# Altium integrated library MergenElektronik_Resistors_ChipResistors.IntLib: 16 symbols
Pins are listed as number, name and electrical type; pins without a type are passive.

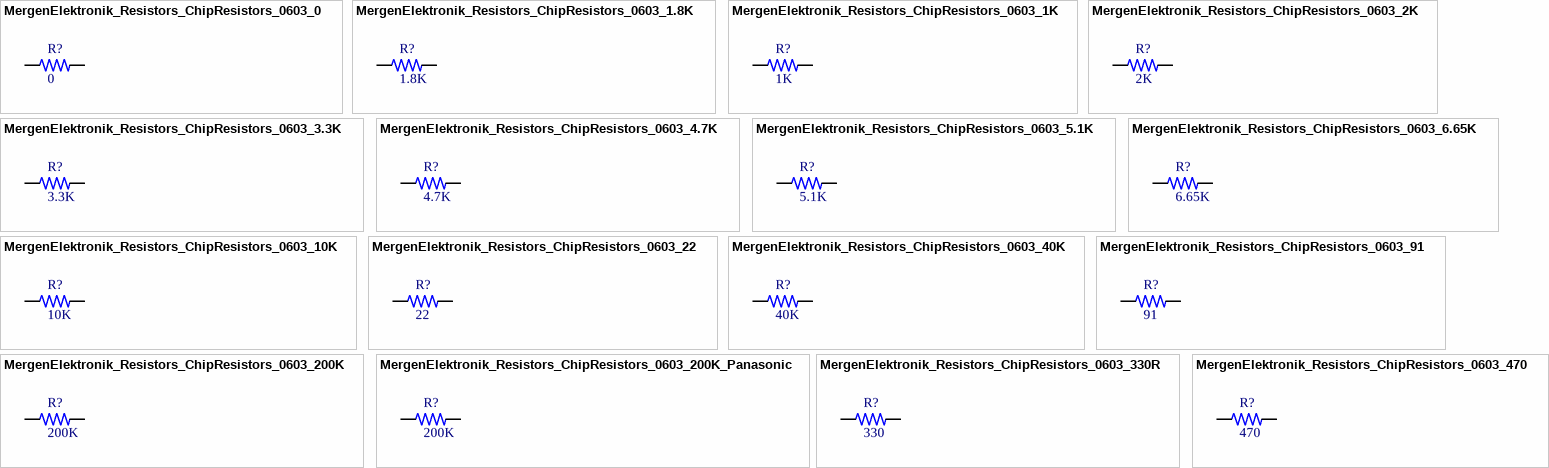
[diagram p0: symbols MergenElektronik_Resistors_ChipResistors_0603_0 to MergenElektronik_Resistors_ChipResistors_0603_470]

## MergenElektronik_Resistors_ChipResistors_0603_0
designator R?, comment 0
Mergen Elektronik - Resistors - Chip Resistors - 0603 - 0; Manufacturer: Stackpole Electronics Inc; Manufacturer Number: RMCF0603ZT0R00; Value: Chip Resistor - 0603 - 0; Package: 0603(1608); Temperature: -55°C up to +155°C - X8R; Model: Chip Resistor; Digi-Key Number: RMCF0603ZT0R00CT-ND; Mounting Type: Surface Mount; Power: -; Tolerance: -; Mouser Number: 708-RMCF0603ZT0R00; Özdisan Number: RMCF0603ZT0R00; Supplier 1: Digi-Key; Supplier 2: Mouser; Supplier Part Number 1: RMCF0603ZT0R00DKR-ND; Supplier Part Number 2: 708-RMCF0603ZT0R00
footprint MergenElektronik_Resistors_ChipResistors_0603_L (0603 Large)
footprint MergenElektronik_Resistors_ChipResistors_0603_L_NS (0603 Large - No Silkscreen)
footprint MergenElektronik_Resistors_ChipResistors_0603_M (0603 Medium)
footprint MergenElektronik_Resistors_ChipResistors_0603_M_NS (0603 Medium - No Silckscreen)
footprint MergenElektronik_Resistors_ChipResistors_0603_S (0603 Small)
footprint MergenElektronik_Resistors_ChipResistors_0603_S_NS (0603 Small - No Silkscreen)
pins: 1, 2

## MergenElektronik_Resistors_ChipResistors_0603_1.8K
designator R?, comment 1.8K
Mergen Elektronik - Resistors - Chip Resistors - 0603 - 1.8K; Manufacturer: Stackpole Electronics Inc; Manufacturer Number: RMCF0603JT1K80; Value: Chip Resistor - 0603 - 1.8K; Power: 1/10W; Tolerance: ±5%; Package: 0603(1608); Temperature: -55°C up to +155°C - X8R; Model: Chip Resistor; Digi-Key Number: RMCF0603JT1K80TR-ND; Mounting Type: Surface Mount; Mouser Number: 708-RMCF0603JT1K80; Supplier 1: Digikey; Supplier 2: Mouser; Supplier Part Number 1: RMCF0603JT1K80TR-ND; Supplier Part Number 2: 708-RMCF0603JT1K80
footprint MergenElektronik_Resistors_ChipResistors_0603_L (0603 Large)
footprint MergenElektronik_Resistors_ChipResistors_0603_L_NS (0603 Large - No Silkscreen)
footprint MergenElektronik_Resistors_ChipResistors_0603_M (0603 Medium)
footprint MergenElektronik_Resistors_ChipResistors_0603_M_NS (0603 Medium - No Silckscreen)
footprint MergenElektronik_Resistors_ChipResistors_0603_S (0603 Small)
footprint MergenElektronik_Resistors_ChipResistors_0603_S_NS (0603 Small - No Silkscreen)
pins: 1, 2

## MergenElektronik_Resistors_ChipResistors_0603_1K
designator R?, comment 1K
Mergen Elektronik - Resistors - Chip Resistors - 0603 - 1K; Manufacturer: Stackpole Electronics Inc; Manufacturer Number: RMCF0603JT1K00; Value: Chip Resistor - 0603 - 1K; Power: 1/10W; Tolerance: ±5%; Package: 0603(1608); Temperature: -55°C up to +155°C - X8R; Model: Chip Resistor; Digi-Key Number: RMCF0603JT1K00CT-ND; Mounting Type: Surface Mount; Mouser Number: 708-RMCF0603JT1K00; Supplier 1: Digikey; Supplier 2: Mouser; Supplier Part Number 1: RMCF0603JT1K00DKR-ND; Supplier Part Number 2: 708-RMCF0603JT1K00
footprint MergenElektronik_Resistors_ChipResistors_0603_L (0603 Large)
footprint MergenElektronik_Resistors_ChipResistors_0603_L_NS (0603 Large - No Silkscreen)
footprint MergenElektronik_Resistors_ChipResistors_0603_M (0603 Medium)
footprint MergenElektronik_Resistors_ChipResistors_0603_M_NS (0603 Medium - No Silckscreen)
footprint MergenElektronik_Resistors_ChipResistors_0603_S (0603 Small)
footprint MergenElektronik_Resistors_ChipResistors_0603_S_NS (0603 Small - No Silkscreen)
pins: 1, 2

## MergenElektronik_Resistors_ChipResistors_0603_2K
designator R?, comment 2K
Mergen Elektronik - Resistors - Chip Resistors - 0603 - 2K; Manufacturer: Panasonic Electronic Components; Manufacturer Number: ERJ-3EKF2001V; Value: Chip Resistor - 0603 - 2K; Power: 1/10W; Tolerance: ±1%; Package: 0603(1608); Temperature: -55°C up to +155°C - X8R; Model: Chip Resistor; Digi-Key Number: P2.00KHCT-ND; Mounting Type: Surface Mount; Mouser Number: 667-ERJ-3EKF2001V; Özdisan Number: ERJ-3EKF2001V; Farnell Number: 2059343; Supplier 1: Digikey; Supplier 2: Mouser; Supplier Part Number 1: P2.00KHDKR-ND; Supplier Part Number 2: 667-ERJ-3EKF2001V
footprint MergenElektronik_Resistors_ChipResistors_0603_L (0603 Large)
footprint MergenElektronik_Resistors_ChipResistors_0603_L_NS (0603 Large - No Silkscreen)
footprint MergenElektronik_Resistors_ChipResistors_0603_M (0603 Medium)
footprint MergenElektronik_Resistors_ChipResistors_0603_M_NS (0603 Medium - No Silckscreen)
footprint MergenElektronik_Resistors_ChipResistors_0603_S (0603 Small)
footprint MergenElektronik_Resistors_ChipResistors_0603_S_NS (0603 Small - No Silkscreen)
pins: 1, 2

## MergenElektronik_Resistors_ChipResistors_0603_3.3K
designator R?, comment 3.3K
Mergen Elektronik - Resistors - Chip Resistors - 0603 - 3.3K; Manufacturer: YAGEO; Manufacturer Number: RC0603FR-073K3L; Value: Chip Resistor - 0603 - 3.3K; Power: 1/10W; Tolerance: ±1%; Package: 0603(1608); Temperature: -55°C up to +155°C - X8R; Model: Chip Resistor; Digi-Key Number: 311-3.30KHRTR-ND; Mounting Type: Surface Mount; Mouser Number: 603-RC0603FR-073K3L; Farnell Number: 9238549; Özdisan Number: RC0603FR-073K3L; Supplier 1: Digikey; Supplier 2: Mouser; Supplier Part Number 1: 311-3.30KHRCT-ND; Supplier Part Number 2: RC0603FR-073K3L
footprint MergenElektronik_Resistors_ChipResistors_0603_L (0603 Large)
footprint MergenElektronik_Resistors_ChipResistors_0603_L_NS (0603 Large - No Silkscreen)
footprint MergenElektronik_Resistors_ChipResistors_0603_M (0603 Medium)
footprint MergenElektronik_Resistors_ChipResistors_0603_M_NS (0603 Medium - No Silckscreen)
footprint MergenElektronik_Resistors_ChipResistors_0603_S (0603 Small)
footprint MergenElektronik_Resistors_ChipResistors_0603_S_NS (0603 Small - No Silkscreen)
pins: 1, 2

## MergenElektronik_Resistors_ChipResistors_0603_4.7K
designator R?, comment 4.7K
Mergen Elektronik - Resistors - Chip Resistors - 0603 - 4.7K; Manufacturer: Stackpole Electronics Inc; Manufacturer Number: RMCF0603FT4K70; Value: Chip Resistor - 0603 - 4.7K; Power: 1/10W; Tolerance: ±1%; Package: 0603(1608); Temperature: -55°C up to +155°C - X8R; Model: Chip Resistor; Digi-Key Number: RMCF0603FT4K70TR-ND; Mounting Type: Surface Mount; Mouser Number: 708-RMCF0603FT4K70; Supplier 1: Digikey; Supplier 2: Mouser; Supplier Part Number 1: RMCF0603FT4K70TR-ND; Supplier Part Number 2: 708-RMCF0603FT4K70
footprint MergenElektronik_Resistors_ChipResistors_0603_L (0603 Large)
footprint MergenElektronik_Resistors_ChipResistors_0603_L_NS (0603 Large - No Silkscreen)
footprint MergenElektronik_Resistors_ChipResistors_0603_M (0603 Medium)
footprint MergenElektronik_Resistors_ChipResistors_0603_M_NS (0603 Medium - No Silckscreen)
footprint MergenElektronik_Resistors_ChipResistors_0603_S (0603 Small)
footprint MergenElektronik_Resistors_ChipResistors_0603_S_NS (0603 Small - No Silkscreen)
pins: 1, 2

## MergenElektronik_Resistors_ChipResistors_0603_5.1K
designator R?, comment 5.1K
Mergen Elektronik - Resistors - Chip Resistors - 0603 - 5.1K; Manufacturer: Stackpole Electronics Inc; Manufacturer Number: RMCF0603JT5K10; Value: Chip Resistor - 0603 - 5.1K; Power: 1/10W; Tolerance: ±5%; Package: 0603(1608); Temperature: -55°C up to +155°C - X8R; Model: Chip Resistor; Digi-Key Number: RMCF0603JT5K10CT-ND; Mounting Type: Surface Mount; Mouser Number: 708-RMCF0603JT5K10; Supplier 1: Digi-Key; Supplier Part Number 1: RMCF0603JT5K10DKR-ND
footprint MergenElektronik_Resistors_ChipResistors_0603_L (0603 Large)
footprint MergenElektronik_Resistors_ChipResistors_0603_L_NS (0603 Large - No Silkscreen)
footprint MergenElektronik_Resistors_ChipResistors_0603_M (0603 Medium)
footprint MergenElektronik_Resistors_ChipResistors_0603_M_NS (0603 Medium - No Silckscreen)
footprint MergenElektronik_Resistors_ChipResistors_0603_S (0603 Small)
footprint MergenElektronik_Resistors_ChipResistors_0603_S_NS (0603 Small - No Silkscreen)
pins: 1, 2

## MergenElektronik_Resistors_ChipResistors_0603_6.65K
designator R?, comment 6.65K
Mergen Elektronik - Resistors - Chip Resistors - 0603 - 6.65K; Manufacturer: YAGEO; Manufacturer Number: RC0603FR-076K65L; Value: Chip Resistor - 0603 - 6.65K; Power: 1/10W; Tolerance: ±1%; Package: 0603(1608); Temperature: -55°C up to +155°C - X8R; Model: Chip Resistor; Digi-Key Number: 311-6.65KHRCT-ND; Mounting Type: Surface Mount; Mouser Number: 603-RC0603FR-076K65L; Farnell Number: 3950957; Özdisan Number: RC0603FR-076K65L; Supplier 1: Digikey; Supplier 2: Mouser; Supplier Part Number 1: 311-6.65KHRCT-ND; Supplier Part Number 2: 603-RC0603FR-076K65L
footprint MergenElektronik_Resistors_ChipResistors_0603_L (0603 Large)
footprint MergenElektronik_Resistors_ChipResistors_0603_L_NS (0603 Large - No Silkscreen)
footprint MergenElektronik_Resistors_ChipResistors_0603_M (0603 Medium)
footprint MergenElektronik_Resistors_ChipResistors_0603_M_NS (0603 Medium - No Silckscreen)
footprint MergenElektronik_Resistors_ChipResistors_0603_S (0603 Small)
footprint MergenElektronik_Resistors_ChipResistors_0603_S_NS (0603 Small - No Silkscreen)
pins: 1, 2

## MergenElektronik_Resistors_ChipResistors_0603_10K
designator R?, comment 10K
Mergen Elektronik - Resistors - Chip Resistors - 0603 - 10K; Manufacturer: Stackpole Electronics Inc; Manufacturer Number: RMCF0603JT10K0; Value: Chip Resistor - 0603 - 10K; Power: 1/10W; Tolerance: ±5%; Package: 0603(1608); Temperature: -55°C up to +155°C - X8R; Model: Chip Resistor; Digi-Key Number: RMCF0603JT10K0CT-ND; Mounting Type: Surface Mount; Supplier 1: Digi-Key; Supplier Part Number 1: RMCF0603JT10K0-ND
footprint MergenElektronik_Resistors_ChipResistors_0603_L (0603 Large)
footprint MergenElektronik_Resistors_ChipResistors_0603_L_NS (0603 Large - No Silkscreen)
footprint MergenElektronik_Resistors_ChipResistors_0603_M (0603 Medium)
footprint MergenElektronik_Resistors_ChipResistors_0603_M_NS (0603 Medium - No Silckscreen)
footprint MergenElektronik_Resistors_ChipResistors_0603_S (0603 Small)
footprint MergenElektronik_Resistors_ChipResistors_0603_S_NS (0603 Small - No Silkscreen)
pins: 1, 2

## MergenElektronik_Resistors_ChipResistors_0603_22
designator R?, comment 22
Mergen Elektronik - Resistors - Chip Resistors - 0603 - 22; Manufacturer: TE Connectivity Passive Product; Manufacturer Number: CRGCQ0603J22R; Value: Chip Resistor - 0603 - 22; Power: 1/10W; Tolerance: ±5%; Özdisan Number: RMCF0603ZT0R00; Package: 0603(1608); Temperature: -55°C up to +155°C - X8R; Model: Chip Resistor; Digi-Key Number: A130081CT-ND; Mounting Type: Surface Mount; Mouser Number: 279-CRGCQ0603J22R; Farnell Number: 2861854; Supplier 1: Digi-Key; Supplier 2: Mouser; Supplier Part Number 1: A130081CT-ND; Supplier Part Number 2: 279-CRGCQ0603J22R
footprint MergenElektronik_Resistors_ChipResistors_0603_L (0603 Large)
footprint MergenElektronik_Resistors_ChipResistors_0603_L_NS (0603 Large - No Silkscreen)
footprint MergenElektronik_Resistors_ChipResistors_0603_M (0603 Medium)
footprint MergenElektronik_Resistors_ChipResistors_0603_M_NS (0603 Medium - No Silckscreen)
footprint MergenElektronik_Resistors_ChipResistors_0603_S (0603 Small)
footprint MergenElektronik_Resistors_ChipResistors_0603_S_NS (0603 Small - No Silkscreen)
pins: 1, 2

## MergenElektronik_Resistors_ChipResistors_0603_40K
designator R?, comment 40K
Mergen Elektronik - Resistors - Chip Resistors - 0603 - 40K; Manufacturer: YAGEO; Manufacturer Number: RT0603BRD0740KL; Value: Chip Resistor - 0603 - 40K; Power: 1/10W; Tolerance: ±0.1%; Package: 0603(1608); Temperature: -55°C up to +155°C - X8R; Model: Chip Resistor; Digi-Key Number: 13-RT0603BRD0740KLTR-ND; Mounting Type: Surface Mount; Mouser Number: 603-RT0603BRD0740KL; Supplier 1: Digikey; Supplier 2: Mouser; Supplier Part Number 1: 13-RT0603BRD0740KLDKR-ND; Supplier Part Number 2: 603-RT0603BRD0740KL
footprint MergenElektronik_Resistors_ChipResistors_0603_L (0603 Large)
footprint MergenElektronik_Resistors_ChipResistors_0603_L_NS (0603 Large - No Silkscreen)
footprint MergenElektronik_Resistors_ChipResistors_0603_M (0603 Medium)
footprint MergenElektronik_Resistors_ChipResistors_0603_M_NS (0603 Medium - No Silckscreen)
footprint MergenElektronik_Resistors_ChipResistors_0603_S (0603 Small)
footprint MergenElektronik_Resistors_ChipResistors_0603_S_NS (0603 Small - No Silkscreen)
pins: 1, 2

## MergenElektronik_Resistors_ChipResistors_0603_91
designator R?, comment 91
Mergen Elektronik - Resistors - Chip Resistors - 0603 - 91; Manufacturer: YAGEO; Manufacturer Number: RC0603FR-0791RL; Value: Chip Resistor - 0603 - 91; Power: 1/10W; Tolerance: ±1%; Package: 0603(1608); Temperature: -55°C up to +155°C - X8R; Model: Chip Resistor; Digi-Key Number: RMCF0603ZT0R00CT-ND; Mounting Type: Surface Mount; Mouser Number: 603-RC0603FR-0791RL; Özdisan Number: RC0603FR-0791RL; Farnell Number: 3950881RL; Supplier 1: Digikey; Supplier 2: Mouser; Supplier Part Number 1: 311-91.0HRDKR-ND; Supplier Part Number 2: 603-RC0603FR-0791RL
footprint MergenElektronik_Resistors_ChipResistors_0603_L (0603 Large)
footprint MergenElektronik_Resistors_ChipResistors_0603_L_NS (0603 Large - No Silkscreen)
footprint MergenElektronik_Resistors_ChipResistors_0603_M (0603 Medium)
footprint MergenElektronik_Resistors_ChipResistors_0603_M_NS (0603 Medium - No Silckscreen)
footprint MergenElektronik_Resistors_ChipResistors_0603_S (0603 Small)
footprint MergenElektronik_Resistors_ChipResistors_0603_S_NS (0603 Small - No Silkscreen)
pins: 1, 2

## MergenElektronik_Resistors_ChipResistors_0603_200K
designator R?, comment 200K
Mergen Elektronik - Resistors - Chip Resistors - 0603 - 200K; Manufacturer: Stackpole Electronics Inc; Manufacturer Number: RMCF0603FT200K; Value: Chip Resistor - 0603 - 200K; Power: 1/10W; Tolerance: ±1%; Package: 0603(1608); Temperature: -55°C up to +155°C - X8R; Model: Chip Resistor; Digi-Key Number: RMCF0603FT200KTR-ND; Mounting Type: Surface Mount; Mouser Number: 708-RMCF0603FT200K; Supplier 1: Digikey; Supplier 2: Mouser; Supplier Part Number 1: RMCF0603FT200KTR-ND; Supplier Part Number 2: 708-RMCF0603FT200K
footprint MergenElektronik_Resistors_ChipResistors_0603_L (0603 Large)
footprint MergenElektronik_Resistors_ChipResistors_0603_L_NS (0603 Large - No Silkscreen)
footprint MergenElektronik_Resistors_ChipResistors_0603_M (0603 Medium)
footprint MergenElektronik_Resistors_ChipResistors_0603_M_NS (0603 Medium - No Silckscreen)
footprint MergenElektronik_Resistors_ChipResistors_0603_S (0603 Small)
footprint MergenElektronik_Resistors_ChipResistors_0603_S_NS (0603 Small - No Silkscreen)
pins: 1, 2

## MergenElektronik_Resistors_ChipResistors_0603_200K_Panasonic
designator R?, comment 200K
Mergen Elektronik - Resistors - Chip Resistors - 0603 - 200K; Manufacturer: Panasonic Electronic Components; Manufacturer Number: ERJ-3EKF2003V; Value: Chip Resistor - 0603 - 200K; Power: 1/10W; Tolerance: ±5%; Package: 0603(1608); Temperature: -55°C up to +155°C - X8R; Model: Chip Resistor; Digi-Key Number: P200KHCT-ND; Mounting Type: Surface Mount; Mouser Number: 667-ERJ-3EKF2003V; Farnell Number: 2059509; Özdisan Number: ERJ-3EKF2003V; Supplier 1: Digikey; Supplier 2: Mouser; Supplier Part Number 1: P200KHCT-ND; Supplier Part Number 2: 667-ERJ-3EKF2003V
footprint MergenElektronik_Resistors_ChipResistors_0603_L (0603 Large)
footprint MergenElektronik_Resistors_ChipResistors_0603_L_NS (0603 Large - No Silkscreen)
footprint MergenElektronik_Resistors_ChipResistors_0603_M (0603 Medium)
footprint MergenElektronik_Resistors_ChipResistors_0603_M_NS (0603 Medium - No Silckscreen)
footprint MergenElektronik_Resistors_ChipResistors_0603_S (0603 Small)
footprint MergenElektronik_Resistors_ChipResistors_0603_S_NS (0603 Small - No Silkscreen)
pins: 1, 2

## MergenElektronik_Resistors_ChipResistors_0603_330R
designator R?, comment 330
Mergen Elektronik - Resistors - Chip Resistors - 0603 - 330R; Manufacturer: Stackpole Electronics Inc; Manufacturer Number: RMCF0603JT330R; Value: Chip Resistor - 0603 - 330R; Power: 1/10W; Tolerance: ±5%; Package: 0603(1608); Temperature: -55°C up to +155°C - X8R; Model: Chip Resistor; Digi-Key Number: RMCF0603JT330RCT-ND; Mounting Type: Surface Mount; Supplier 1: Digi-Key; Supplier Part Number 1: RMCF0603JT330RCT-ND
footprint MergenElektronik_Resistors_ChipResistors_0603_L (0603 Large)
footprint MergenElektronik_Resistors_ChipResistors_0603_L_NS (0603 Large - No Silkscreen)
footprint MergenElektronik_Resistors_ChipResistors_0603_M (0603 Medium)
footprint MergenElektronik_Resistors_ChipResistors_0603_M_NS (0603 Medium - No Silckscreen)
footprint MergenElektronik_Resistors_ChipResistors_0603_S (0603 Small)
footprint MergenElektronik_Resistors_ChipResistors_0603_S_NS (0603 Small - No Silkscreen)
pins: 1, 2

## MergenElektronik_Resistors_ChipResistors_0603_470
designator R?, comment 470
Mergen Elektronik - Resistors - Chip Resistors - 0603 - 470; Manufacturer: Stackpole Electronics Inc; Manufacturer Number: RMCF0603JT470R; Value: Chip Resistor - 0603 - 470; Power: 1/10W; Tolerance: ±5%; Package: 0603(1608); Temperature: -55°C up to +155°C - X8R; Model: Chip Resistor; Digi-Key Number: RMCF0603JT470RTR-ND; Mounting Type: Surface Mount; Mouser Number: 708-RMCF0603JT470R; Supplier 1: Digikey; Supplier 2: Mouser; Supplier Part Number 2: 708-RMCF0603JT470R; Supplier Part Number 1: RMCF0603JT470RTR-ND
footprint MergenElektronik_Resistors_ChipResistors_0603_L (0603 Large)
footprint MergenElektronik_Resistors_ChipResistors_0603_L_NS (0603 Large - No Silkscreen)
footprint MergenElektronik_Resistors_ChipResistors_0603_M (0603 Medium)
footprint MergenElektronik_Resistors_ChipResistors_0603_M_NS (0603 Medium - No Silckscreen)
footprint MergenElektronik_Resistors_ChipResistors_0603_S (0603 Small)
footprint MergenElektronik_Resistors_ChipResistors_0603_S_NS (0603 Small - No Silkscreen)
pins: 1, 2